# EAGLE library part LTC4080 (library anykey)
Linear Technology Li-Ion battery charger and buck regulator
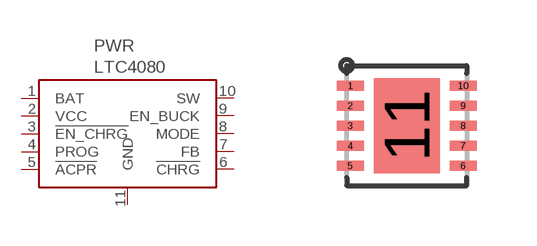
[diagram p18: symbol with the pads of LTC4080_DFN; footprint LTC4080_DFN]

Designator prefix PWR

## LTC4080DFN  [LTC4080_DFN]
1  BAT  pwr
2  VCC  pwr
3  !EN_CHRG  in
4  PROG
5  !ACPR
6  !CHRG  out
7  FB  in
8  MODE  in
9  EN_BUCK  in
10  SW  out
11  GND  pwr

## Footprint LTC4080_DFN (pad centres in mm)
smd 0.675 x 0.25: 1 -1.413,1; 2 -1.413,0.5; 3 -1.413,0; 4 -1.413,-0.5; 5 -1.413,-1; 6 1.413,-1; 7 1.413,-0.5; 8 1.413,0; 9 1.413,0.5; 10 1.413,1
smd 1.65 x 2.38: 11 0,0